# Altium footprint library algovision.PcbLib: 15 footprints
Each footprint in its own frame and in the unit in brackets; x right, y up, seen from the top. Pads: shape width x height; smd on the part's side, far side on the other; paste and mask are expansions set on the pad; w line width, h text height; cw(c..) or ccw(c..) is an arc to the next point about the centre after c.
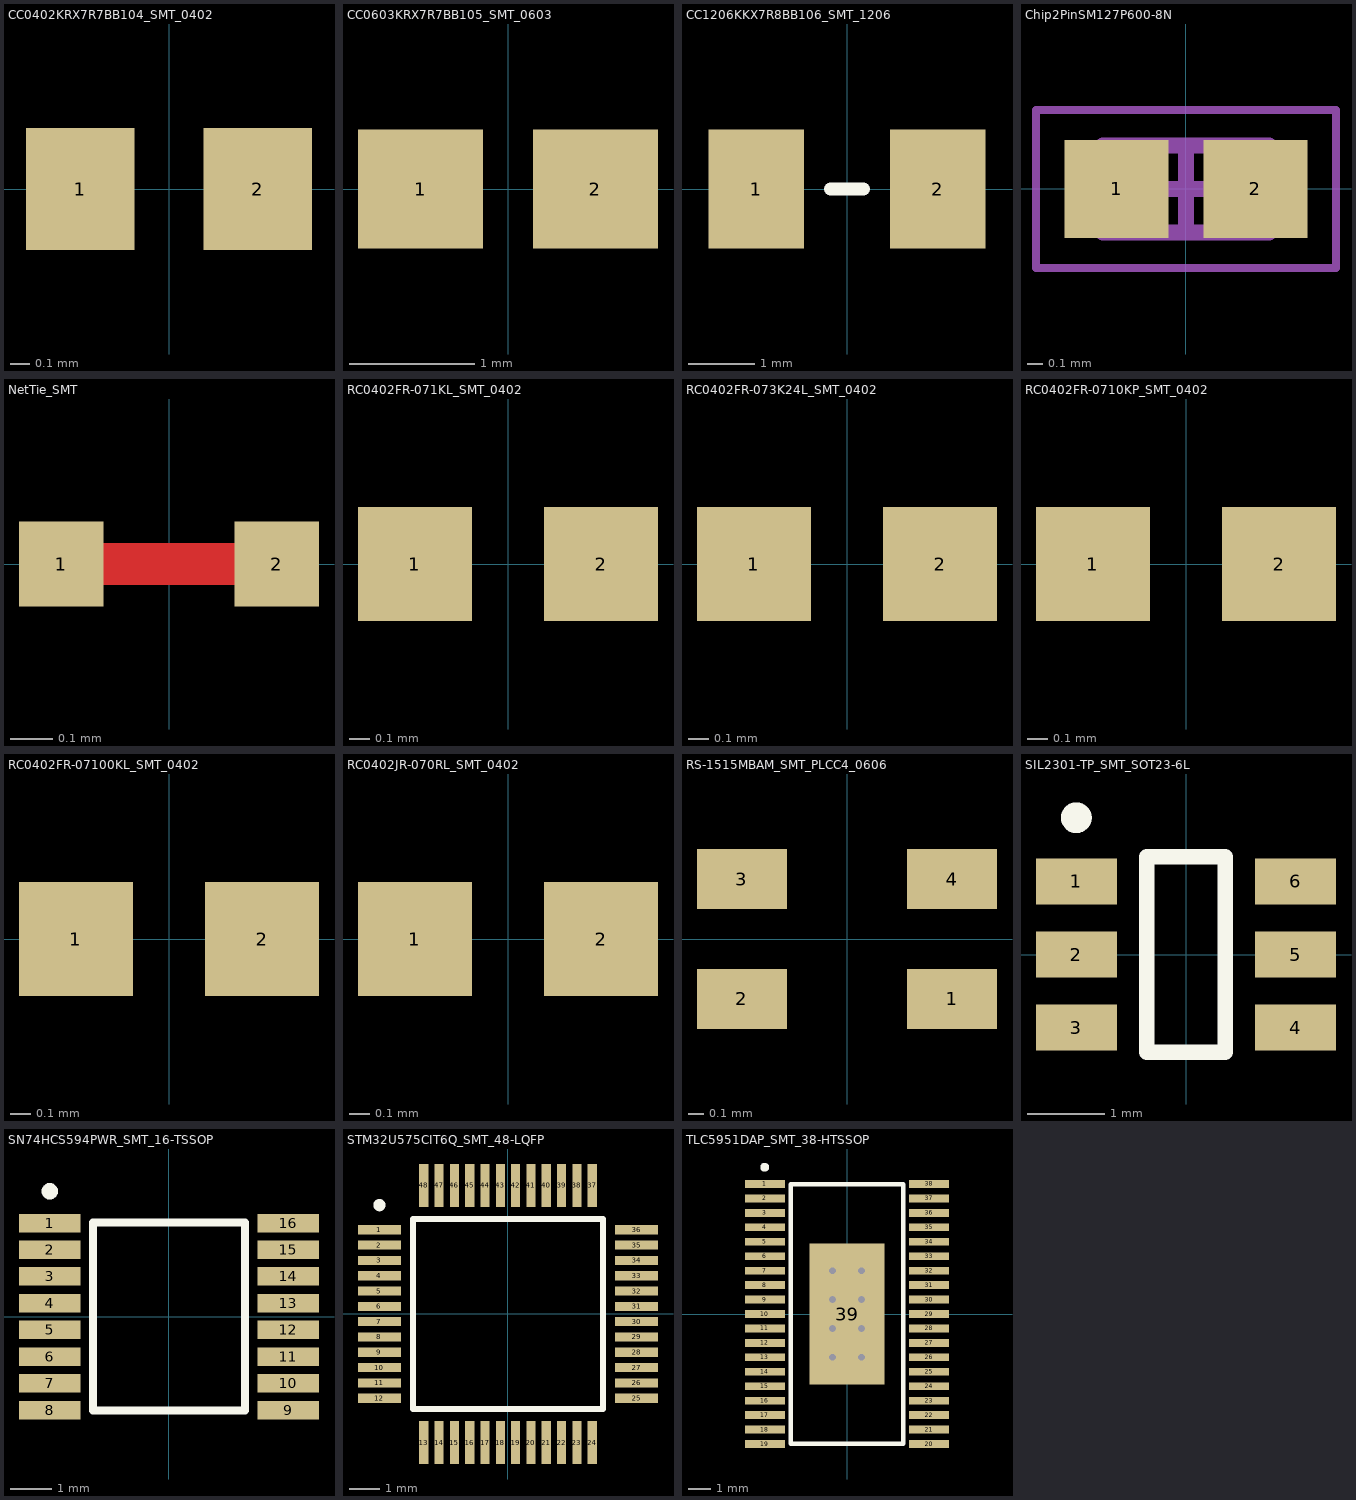
[diagram p0: the footprints below, top view; thin cyan lines are the x and y axes]

## CC0402KRX7R7BB104_SMT_0402 [mm]
height 0.55
pads (2):
  rect 0.55x0.62 smd: 1(-0.45,0) 2(0.45,0)
3D body "CC0402KR.step": height 0.57, standoff 0.01, extent -0.521,-0.279 0.521,0.279

## CC0603KRX7R7BB105_SMT_0603 [mm]
height 0.9
pads (2):
  rect 1x0.95 smd: 1(-0.7,0) 2(0.7,0)
3D body "CC0603KR.step": height 0.93, standoff 0.01, extent -0.851,-0.457 0.851,0.457

## CC1206KKX7R8BB106_SMT_1206 [mm]
height 1.8
pads (2):
  rect 1.45x1.8 smd: 1(-1.375,0) 2(1.375,0)
Top Overlay:
  lines w0.2: -0.25,0 0.25,0
3D body "CC1206KK.step": height 1.72, standoff 0.01, extent -1.6,-0.8 1.6,0.8

## Chip2PinSM127P600-8N [mm]
height 0.55
pads (2):
  rect 0.66x0.62 smd: 1(-0.44,0) 2(0.44,0)
Mechanical 13:
  lines w0.1: -0.525,-0.275 -0.525,0.275 0.525,0.275 0.525,-0.275 -0.525,-0.275
Mechanical 15:
  lines w0.05: -0.95,-0.5 -0.95,0.5 0.95,0.5 0.95,-0.5 -0.95,-0.5
  lines w0.1: -0.275,0 0.275,0 ; 0,-0.275 0,0.275
3D body: height 0.55, standoff 0, extent -0.275,-0.275 0.275,0.275
3D body: height 0.55, standoff 0, extent -0.525,-0.275 -0.275,0.275
3D body: height 0.55, standoff 0, extent 0.275,-0.275 0.525,0.275

## NetTie_SMT [mm]
pads (2):
  rect 0.2x0.2 smd paste-2539.97 mask-10: 1(-0.254,0) 2(0.254,0)
Top Layer:
  rectangle: -0.25,-0.05 0.25,0.05

## RC0402FR-071KL_SMT_0402 [mm]
height 0.4
pads (2):
  rect 0.55x0.55 smd: 1(-0.45,0) 2(0.45,0)
3D body "RC0402FR.step": height 0.41, standoff 0.01, extent -0.5,-0.25 0.5,0.25

## RC0402FR-073K24L_SMT_0402 [mm]
height 0.4
pads (2):
  rect 0.55x0.55 smd: 1(-0.45,0) 2(0.45,0)
3D body "RC0402FR.step": height 0.41, standoff 0.01, extent -0.5,-0.25 0.5,0.25

## RC0402FR-0710KP_SMT_0402 [mm]
height 0.4
pads (2):
  rect 0.55x0.55 smd: 1(-0.45,0) 2(0.45,0)
3D body "RC0402FR.step": height 0.41, standoff 0.01, extent -0.5,-0.25 0.5,0.25

## RC0402FR-07100KL_SMT_0402 [mm]
height 0.4
pads (2):
  rect 0.55x0.55 smd: 1(-0.45,0) 2(0.45,0)
3D body "RC0402FR.step": height 0.41, standoff 0.01, extent -0.5,-0.25 0.5,0.25

## RC0402JR-070RL_SMT_0402 [mm]
height 0.4
pads (2):
  rect 0.55x0.55 smd: 1(-0.45,0) 2(0.45,0)
3D body "RC0402FR.step": height 0.41, standoff 0.01, extent -0.5,-0.25 0.5,0.25

## RS-1515MBAM_SMT_PLCC4_0606 [mm]
height 1
pads (4):
  rect 0.6x0.4 smd: 1(0.7,-0.4) 2(-0.7,-0.4) 3(-0.7,0.4) 4(0.7,0.4)
3D body "RS-1515MBAM.step": height 0.98, standoff 0, extent -0.8,-0.75 0.8,0.75

## SIL2301-TP_SMT_SOT23-6L [mm]
height 1.3
pads (6):
  rect 1.05x0.6 smd: 1(-1.425,0.95) 2(-1.425,0) 3(-1.425,-0.95) 4(1.425,-0.95) 5(1.425,0) 6(1.425,0.95)
Top Overlay:
  circle w0.2: c-1.425,1.778 r0.1
  lines w0.2: -0.508,-1.27 0.508,-1.27 0.508,1.27 -0.508,1.27 -0.508,-1.27
3D body "SIL2301-TP_SMT_SOT23-6L.step": height 1.3, standoff 0, extent -1.6,-1.55 1.6,1.55

## SN74HCS594PWR_SMT_16-TSSOP [mm]
height 1.2
pads (16):
  rect 1.5x0.45 smd mask+0.05: 1(-2.9,2.275) 2(-2.9,1.625) 3(-2.9,0.975) 4(-2.9,0.325) 5(-2.9,-0.325) 6(-2.9,-0.975) 7(-2.9,-1.625) 8(-2.9,-2.275) 9(2.9,-2.275) 10(2.9,-1.625) 11(2.9,-0.975) 12(2.9,-0.325) 13(2.9,0.325) 14(2.9,0.975) 15(2.9,1.625) 16(2.9,2.275)
Top Overlay:
  circle w0.2: c-2.9,3.048 r0.1
  lines w0.2: -1.85,-2.286 1.85,-2.286 1.85,2.286 -1.85,2.286 -1.85,-2.286
3D body "TSOP65P640X120-16N.step": height 1.2, standoff 0, extent -3.2,-2.55 3.2,2.55

## STM32U575CIT6Q_SMT_48-LQFP [mm]
height 1.6
pads (48):
  rect 1.4x0.3 smd mask+0.07: 1(-4.2,2.75) 2(-4.2,2.25) 3(-4.2,1.75) 4(-4.2,1.25) 5(-4.2,0.75) 6(-4.2,0.25) 7(-4.2,-0.25) 8(-4.2,-0.75) 9(-4.2,-1.25) 10(-4.2,-1.75) 11(-4.2,-2.25) 12(-4.2,-2.75) 25(4.2,-2.75) 26(4.2,-2.25) 27(4.2,-1.75) 28(4.2,-1.25) 29(4.2,-0.75) 30(4.2,-0.25) 31(4.2,0.25) 32(4.2,0.75) 33(4.2,1.25) 34(4.2,1.75) 35(4.2,2.25) 36(4.2,2.75)
  rect 0.3x1.4 smd mask+0.07: 13(-2.75,-4.2) 14(-2.25,-4.2) 15(-1.75,-4.2) 16(-1.25,-4.2) 17(-0.75,-4.2) 18(-0.25,-4.2) 19(0.25,-4.2) 20(0.75,-4.2) 21(1.25,-4.2) 22(1.75,-4.2) 23(2.25,-4.2) 24(2.75,-4.2) 37(2.75,4.2) 38(2.25,4.2) 39(1.75,4.2) 40(1.25,4.2) 41(0.75,4.2) 42(0.25,4.2) 43(-0.25,4.2) 44(-0.75,4.2) 45(-1.25,4.2) 46(-1.75,4.2) 47(-2.25,4.2) 48(-2.75,4.2)
Top Overlay:
  circle w0.2: c-4.2,3.556 r0.1
  lines w0.2: -3.1,-3.1 -3.1,3.1 3.1,3.1 3.1,-3.1 -3.1,-3.1
3D body "STM32U575CIT6Q_SMT_48-LQFP.step": height 1.6, standoff 0, extent -4.5,-4.5 4.5,4.5

## TLC5951DAP_SMT_38-HTSSOP [mm]
height 1.2
pads (39):
  rect 1.8x0.35 smd mask+0.07: 1(-3.7,5.85) 2(-3.7,5.2) 3(-3.7,4.55) 4(-3.7,3.9) 5(-3.7,3.25) 6(-3.7,2.6) 7(-3.7,1.95) 8(-3.7,1.3) 9(-3.7,0.65) 10(-3.7,0) 11(-3.7,-0.65) 12(-3.7,-1.3) 13(-3.7,-1.95) 14(-3.7,-2.6) 15(-3.7,-3.25) 16(-3.7,-3.9) 17(-3.7,-4.55) 18(-3.7,-5.2) 19(-3.7,-5.85) 20(3.7,-5.85) 21(3.7,-5.2) 22(3.7,-4.55) 23(3.7,-3.9) 24(3.7,-3.25) 25(3.7,-2.6) 26(3.7,-1.95) 27(3.7,-1.3) 28(3.7,-0.65) 29(3.7,0) 30(3.7,0.65) 31(3.7,1.3) 32(3.7,1.95) 33(3.7,2.6) 34(3.7,3.25) 35(3.7,3.9) 36(3.7,4.55) 37(3.7,5.2) 38(3.7,5.85)
  rect 3.39x6.35 smd mask+0.07: 39(0,0)
via -0.65,-1.95 diameter 0.5 hole 0.3
via -0.65,-0.65 diameter 0.5 hole 0.3
via -0.65,0.65 diameter 0.5 hole 0.3
via -0.65,1.95 diameter 0.5 hole 0.3
via 0.65,-1.95 diameter 0.5 hole 0.3
via 0.65,-0.65 diameter 0.5 hole 0.3
via 0.65,0.65 diameter 0.5 hole 0.3
via 0.65,1.95 diameter 0.5 hole 0.3
Top Overlay:
  circle w0.2: c-3.7,6.604 r0.1
  lines w0.2: -2.54,-5.842 2.54,-5.842 2.54,5.842 -2.54,5.842 -2.54,-5.842
3D body "TLC5951DAP_SMT_38-HTSSOP.step": height 1.2, standoff 0, extent -4.05,-6.3 4.05,6.3